# Altium schematic symbol library resistor_sense_1mOhm_2512.SchLib: 1 symbol
Pins are listed as number, name and electrical type; pins without a type are passive.

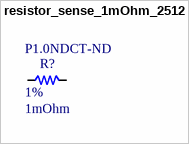
[diagram p0: symbol resistor_sense_1mOhm_2512]

## resistor_sense_1mOhm_2512
designator R?  Resistance: 1mOhm  Tolerance: 1%  Supplier Part Number 1: P1.0NDCT-ND  (hidden comment: resistor_sense_1mOhm_2512)
1mOhm Current Sense; Supplier 1: Digi-Key
footprint RESC6432X11N (Chip Resistor, 2-Leads, Body 6.40x3.20mm, IPC Medium Density)
pins: 1, 2